# EAGLE library part MC9S08QE8-20 (library freescale-hcs08)
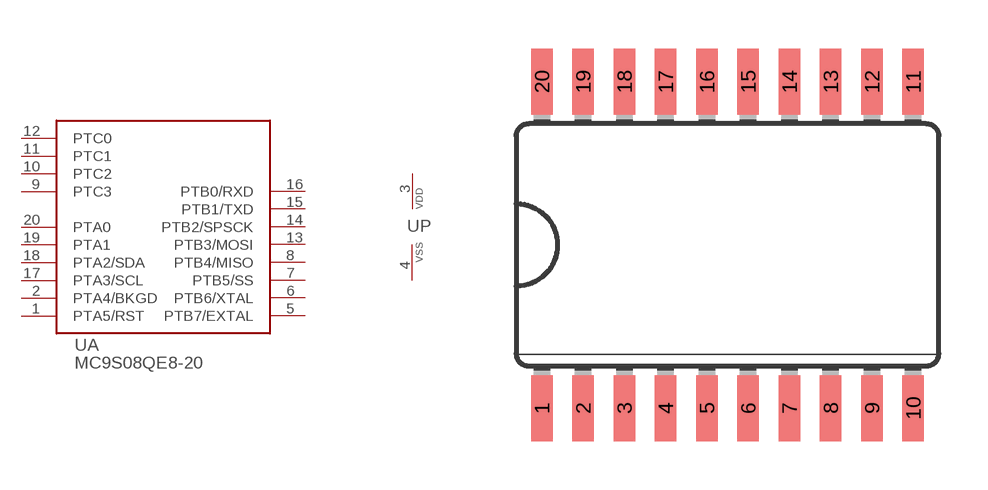
[diagram p15: symbol with the pads of SO20W; footprint SO20W]

Designator prefix -; gates A=MC9S08QE8-20 P=VDD-VSS

## MC9S08QE8-20  [SO20W]
1  A:PTA5/RST
2  A:PTA4/BKGD
3  P:VDD  pwr
4  P:VSS  pwr
5  A:PTB7/EXTAL
6  A:PTB6/XTAL
7  A:PTB5/SS
8  A:PTB4/MISO
9  A:PTC3
10  A:PTC2
11  A:PTC1
12  A:PTC0
13  A:PTB3/MOSI
14  A:PTB2/SPSCK
15  A:PTB1/TXD
16  A:PTB0/RXD
17  A:PTA3/SCL
18  A:PTA2/SDA
19  A:PTA1
20  A:PTA0

## Footprint SO20W (pad centres in mm)
Small Outline Package
smd 0.66 x 2.032: 1 -5.715,-5.029; 2 -4.445,-5.029; 3 -3.175,-5.029; 4 -1.905,-5.029; 5 -0.635,-5.029; 6 0.635,-5.029; 7 1.905,-5.029; 8 3.175,-5.029; 9 4.445,-5.029; 10 5.715,-5.029; 11 5.715,5.029; 12 4.445,5.029; 13 3.175,5.029; 14 1.905,5.029; 15 0.635,5.029; 16 -0.635,5.029; 17 -1.905,5.029; 18 -3.175,5.029; 19 -4.445,5.029; 20 -5.715,5.029